# Altium integrated library NXP Semiconductors Automotive MOSFETs.IntLib: 540 symbols (part 10 of 16)
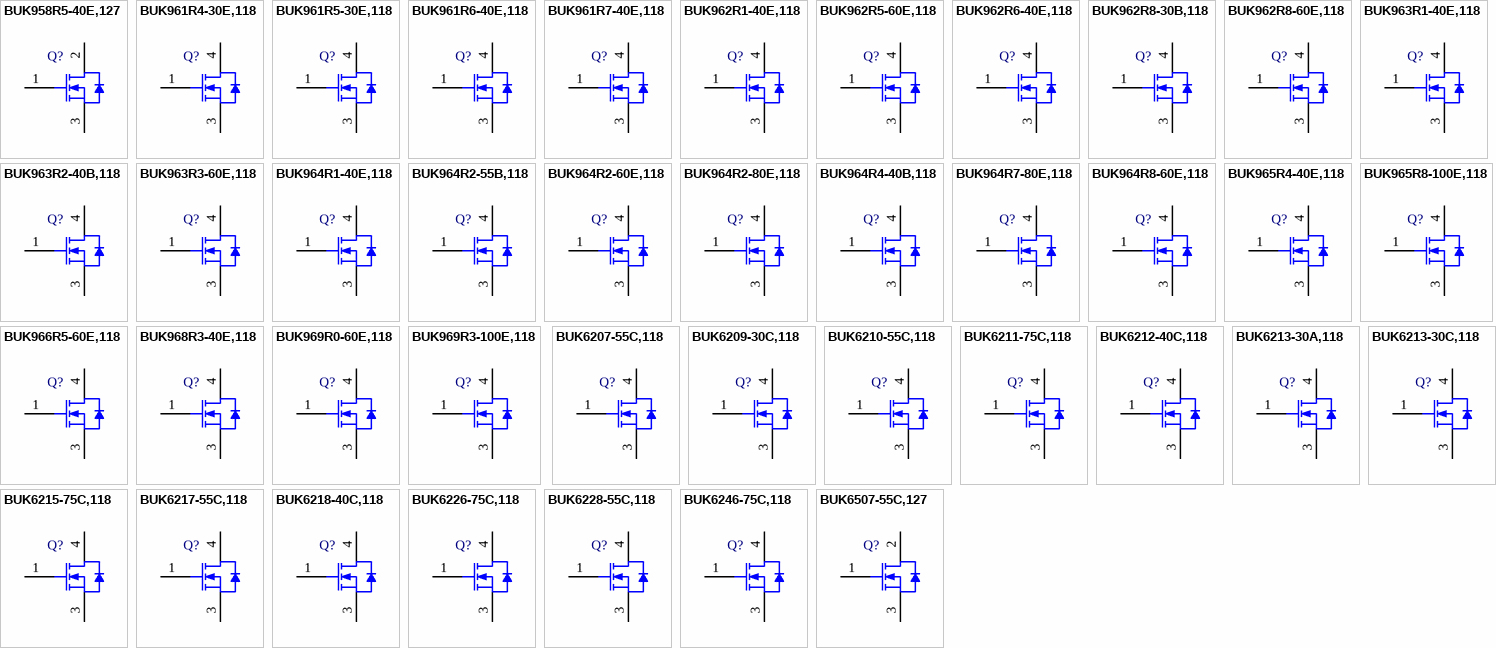
[diagram p23: symbols BUK958R5-40E,127 to BUK6507-55C,127]

## BUK6228-55C,118
designator Q?
N-Channel TrenchMOS Intermediate Level FET, 55 V, 31 A, 3-Pin SOT428, Tape and Reel; Manufacturer: NXP Semiconductors; PartNumber: BUK6228-55C,118; Automotive Qualified: Y; Channel Type: N; ID [max] (A): 31; IDM [max] (A): 122; Packing: Tape & Reel; Qr [typ] (nC): 58.4; VDS [max] (V): 55; VGSth [typ] (V): 2.3; DatasheetVersion: Rev. 1; PackageVersion: 14-06-10, 06/2014; PackageReference: SOT428; PackageDescription: 3-Pin Plastic Single-ended Surface Mounted Package, Body 6.1 x 6.6 mm, Pitch 2.285 mm; Supplier 1: Digi-Key; Supplier Part Number 1: 568-6989-2-ND; Supplier 2: Digi-Key; Supplier Part Number 2: 568-6989-1-ND; Supplier 3: Digi-Key; Supplier Part Number 3: 568-6989-6-ND; Supplier 4: Mouser; Supplier Part Number 4: 771-BUK622855C118; Mounting Technology: Surface Mount; Code_JEITA: SC-63; Code_JEDEC: TO-252; ComponentLink1Description: Manufacturer URL; ComponentLink1URL: http://www.nxp.com/; ComponentLink2Description: Datasheet; ComponentLink2URL: http://www.nxp.com/documents/data_sheet/BUK6228-55C.pdf; ComponentLink3Description: Package Specification; ComponentLink3URL: http://www.nxp.com/documents/outline_drawing/sot428_po.pdf
footprint NXP-SOT428_N (DPAK, 3-Leads, Body 6.75x6.22mm, Pitch 2.29mm, IPC Medium Density)
footprint NXP-SOT428_L (DPAK, 3-Leads, Body 6.75x6.22mm, Pitch 2.29mm, IPC High Density)
footprint NXP-SOT428_M (DPAK, 3-Leads, Body 6.75x6.22mm, Pitch 2.29mm, IPC Low Density)
pins: 1 G "gate", 3 S "source", 4 D "mounting base; connected to drain"

## BUK6246-75C,118
designator Q?
N-Channel TrenchMOS Intermediate Level FET, 75 V, 22 A, 3-Pin SOT428, Tape and Reel; Manufacturer: NXP Semiconductors; PartNumber: BUK6246-75C,118; Automotive Qualified: Y; Channel Type: N; ID [max] (A): 22; IDM [max] (A): 89; Packing: Tape & Reel; Qr [typ] (nC): 64; VDS [max] (V): 75; VGSth [typ] (V): 2.3; DatasheetVersion: Rev. 1; PackageVersion: 14-06-10, 06/2014; PackageReference: SOT428; PackageDescription: 3-Pin Plastic Single-ended Surface Mounted Package, Body 6.1 x 6.6 mm, Pitch 2.285 mm; Supplier 1: Digi-Key; Supplier Part Number 1: BUK6246-75C,118-ND; Supplier 2: Mouser; Supplier Part Number 2: 771-BUK6246-75C118; Mounting Technology: Surface Mount; Code_JEITA: SC-63; Code_JEDEC: TO-252; ComponentLink1Description: Manufacturer URL; ComponentLink1URL: http://www.nxp.com/; ComponentLink2Description: Datasheet; ComponentLink2URL: http://www.nxp.com/documents/data_sheet/BUK6246-75C.pdf; ComponentLink3Description: Package Specification; ComponentLink3URL: http://www.nxp.com/documents/outline_drawing/sot428_po.pdf
footprint NXP-SOT428_N (DPAK, 3-Leads, Body 6.75x6.22mm, Pitch 2.29mm, IPC Medium Density)
footprint NXP-SOT428_L (DPAK, 3-Leads, Body 6.75x6.22mm, Pitch 2.29mm, IPC High Density)
footprint NXP-SOT428_M (DPAK, 3-Leads, Body 6.75x6.22mm, Pitch 2.29mm, IPC Low Density)
pins: 1 G "gate", 3 S "source", 4 D "mounting base; connected to drain"

## BUK6507-55C,127
designator Q?
N-Channel TrenchMOS Logic and Standard Level FET, 55 V, 100 A, 3-Pin SOT78A, Rail; Manufacturer: NXP Semiconductors; PartNumber: BUK6507-55C,127; Automotive Qualified: Y; Channel Type: N; ID [max] (A): 100; IDM [max] (A): 405; Qr [typ] (nC): 86; VDS [max] (V): 55; VGSth [typ] (V): 2.3; DatasheetVersion: Rev. 01; PackageVersion: 05-03-14, 03/2005; PackageReference: SOT78A; PackageDescription: 3-Pin Flange Mount, Vertical Straight Lead, Body 10 x 4.3 mm, Pitch 2.54 mm; Supplier 1: Digi-Key; Supplier Part Number 1: 568-7487-5-ND; Supplier 2: Newark; Supplier Part Number 2: 24T6214; Supplier 3: Mouser; Supplier Part Number 3: 771-BUK650755C127; Packing: Rail; Mounting Technology: Through Hole; Code_JEITA: SC-46; Code_JEDEC: 3-lead TO-220AB; ComponentLink1Description: Manufacturer URL; ComponentLink1URL: http://www.nxp.com/; ComponentLink2Description: Datasheet; ComponentLink2URL: http://www.nxp.com/documents/data_sheet/BUK6507-55C.pdf; ComponentLink3Description: Package Specification; ComponentLink3URL: http://www.nxp.com/documents/outline_drawing/sot078a_po.pdf
footprint NXP-SOT78A (FM, 3-Leads, Body 10.3x4.5mm, Pitch 2.54mm)
pins: 1 G "gate", 2 D "drain", 3 S "source"

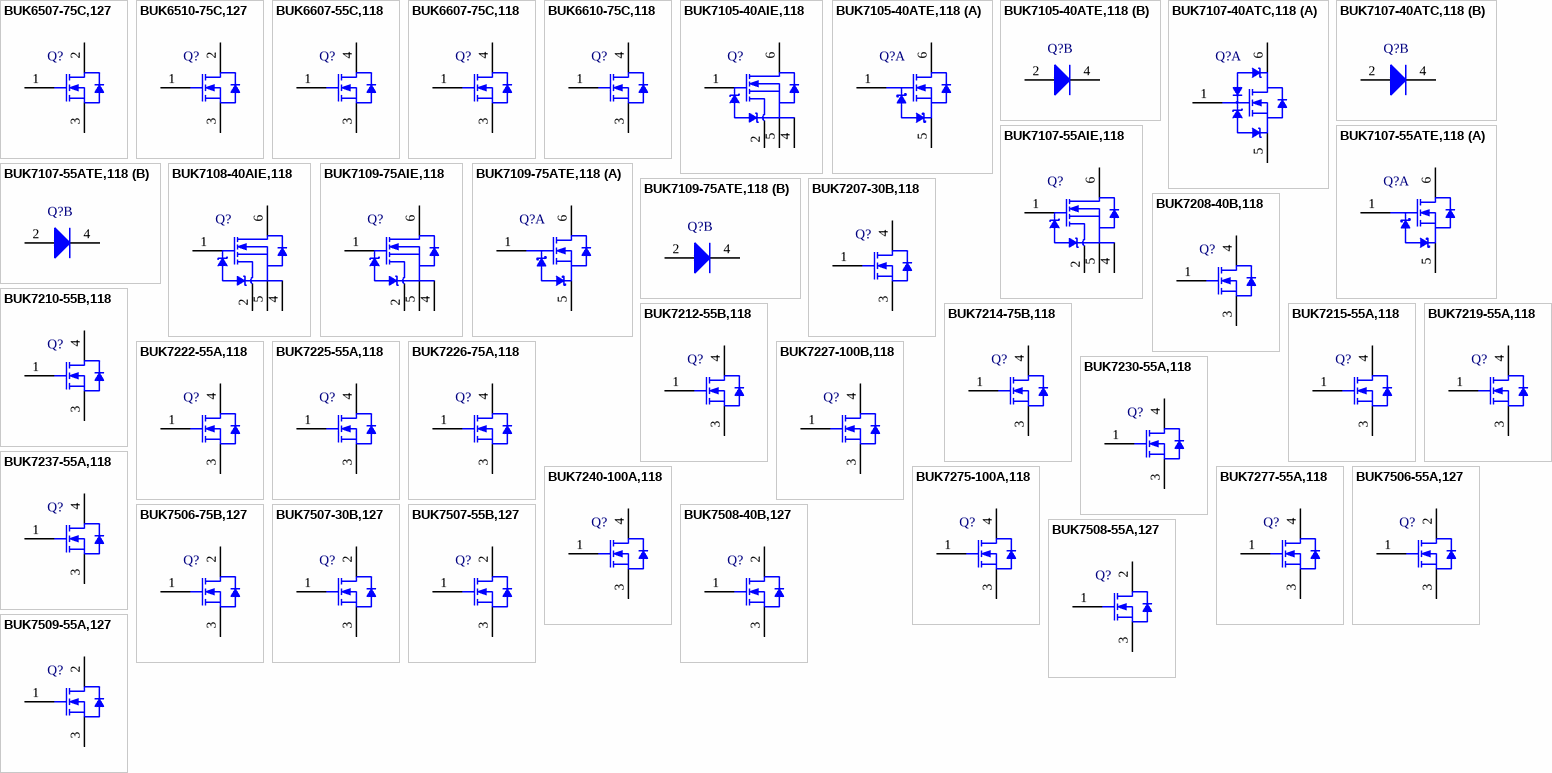
[diagram p9: symbols BUK6507-75C,127 to BUK7509-55A,127]

## BUK6507-75C,127
designator Q?
N-Channel TrenchMOS FET, 75 V, 100 A, 3-Pin SOT78A, Rail; Manufacturer: NXP Semiconductors; PartNumber: BUK6507-75C,127; Automotive Qualified: Y; Channel Type: N; ID [max] (A): 100; IDM [max] (A): 406; Qr [typ] (nC): 129; VDS [max] (V): 75; VGSth [typ] (V): 2.3; DatasheetVersion: Rev. 02; PackageVersion: 05-03-14, 03/2005; PackageReference: SOT78A; PackageDescription: 3-Pin Flange Mount, Vertical Straight Lead, Body 10 x 4.3 mm, Pitch 2.54 mm; Supplier 1: Digi-Key; Supplier Part Number 1: 568-7488-5-ND; Supplier 2: Mouser; Supplier Part Number 2: 771-BUK650775C127; Packing: Rail; Mounting Technology: Through Hole; Code_JEITA: SC-46; Code_JEDEC: 3-lead TO-220AB; ComponentLink1Description: Manufacturer URL; ComponentLink1URL: http://www.nxp.com/; ComponentLink2Description: Datasheet; ComponentLink2URL: http://www.nxp.com/documents/data_sheet/BUK6507-75C.pdf; ComponentLink3Description: Package Specification; ComponentLink3URL: http://www.nxp.com/documents/outline_drawing/sot078a_po.pdf
footprint NXP-SOT78A (FM, 3-Leads, Body 10.3x4.5mm, Pitch 2.54mm)
pins: 1 G "gate", 2 D "drain", 3 S "source"

## BUK6510-75C,127
designator Q?
N-Channel TrenchMOS FET, 75 V, 77 A, 3-Pin SOT78A, Rail; Manufacturer: NXP Semiconductors; PartNumber: BUK6510-75C,127; Automotive Qualified: Y; Channel Type: N; ID [max] (A): 77; IDM [max] (A): 305; Qr [typ] (nC): 105; VDS [max] (V): 75; DatasheetVersion: Rev. 2; PackageVersion: 05-03-14, 03/2005; PackageReference: SOT78A; PackageDescription: 3-Pin Flange Mount, Vertical Straight Lead, Body 10 x 4.3 mm, Pitch 2.54 mm; Supplier 1: Digi-Key; Supplier Part Number 1: 568-7489-5-ND; Supplier 2: Mouser; Supplier Part Number 2: 771-BUK651075C127; Packing: Rail; Mounting Technology: Through Hole; Code_JEITA: SC-46; Code_JEDEC: 3-lead TO-220AB; ComponentLink1Description: Manufacturer URL; ComponentLink1URL: http://www.nxp.com/; ComponentLink2Description: Datasheet; ComponentLink2URL: http://www.nxp.com/documents/data_sheet/BUK6510-75C.pdf; ComponentLink3Description: Package Specification; ComponentLink3URL: http://www.nxp.com/documents/outline_drawing/sot078a_po.pdf
footprint NXP-SOT78A (FM, 3-Leads, Body 10.3x4.5mm, Pitch 2.54mm)
pins: 1 G "gate", 2 D "drain", 3 S "source"

## BUK6607-55C,118
designator Q?
N-Channel TrenchMOS Logic and Standard Level FET, 55 V, 100 A, 3-Pin SOT404, Tape and Reel; Manufacturer: NXP Semiconductors; PartNumber: BUK6607-55C,118; Automotive Qualified: Y; Channel Type: N; ID [max] (A): 100; IDM [max] (A): 420; Packing: Tape & Reel; Qr [typ] (nC): 86; VDS [max] (V): 55; VGSth [typ] (V): 2.3; DatasheetVersion: Rev. 1; PackageVersion: 13-02-25, 02/2013; PackageReference: SOT404; PackageDescription: 3-Pin Plastic Single-ended Surface Mounted Package, Body 10 x 9.6 mm, Pitch 2.54 mm; Supplier 1: Digi-Key; Supplier Part Number 1: 568-6992-2-ND; Supplier 2: Digi-Key; Supplier Part Number 2: 568-6992-1-ND; Supplier 3: Digi-Key; Supplier Part Number 3: 568-6992-6-ND; Supplier 4: Mouser; Supplier Part Number 4: 771-BUK660755C118; Mounting Technology: Surface Mount; ComponentLink1Description: Manufacturer URL; ComponentLink1URL: http://www.nxp.com/; ComponentLink2Description: Datasheet; ComponentLink2URL: http://www.nxp.com/documents/data_sheet/BUK6607-55C.pdf; ComponentLink3Description: Package Specification; ComponentLink3URL: http://www.nxp.com/documents/outline_drawing/sot404_po.pdf
footprint NXP-SOT404_N (DPAK, 3-Leads, Body 10.3x9.8mm, Pitch 2.54mm, IPC Medium Density)
footprint NXP-SOT404_L (DPAK, 3-Leads, Body 10.3x9.8mm, Pitch 2.54mm, IPC High Density)
footprint NXP-SOT404_M (DPAK, 3-Leads, Body 10.3x9.8mm, Pitch 2.54mm, IPC Low Density)
pins: 1 G "gate", 3 S "source", 4 D "mounting base; connected to drain"

## BUK6607-75C,118
designator Q?
N-Channel TrenchMOS FET, 75 V, 100 A, 3-Pin SOT404, Tape and Reel; Manufacturer: NXP Semiconductors; PartNumber: BUK6607-75C,118; Automotive Qualified: Y; Channel Type: N; ID [max] (A): 100; IDM [max] (A): 423; Packing: Tape & Reel; Qr [typ] (nC): 129; VDS [max] (V): 75; VGSth [typ] (V): 2.3; DatasheetVersion: Rev. 2; PackageVersion: 13-02-25, 02/2013; PackageReference: SOT404; PackageDescription: 3-Pin Plastic Single-ended Surface Mounted Package, Body 10 x 9.6 mm, Pitch 2.54 mm; Supplier 1: Digi-Key; Supplier Part Number 1: 568-6993-2-ND; Supplier 2: Digi-Key; Supplier Part Number 2: 568-6993-1-ND; Supplier 3: Digi-Key; Supplier Part Number 3: 568-6993-6-ND; Supplier 4: Mouser; Supplier Part Number 4: 771-BUK660775C118; Mounting Technology: Surface Mount; ComponentLink1Description: Manufacturer URL; ComponentLink1URL: http://www.nxp.com/; ComponentLink2Description: Datasheet; ComponentLink2URL: http://www.nxp.com/documents/data_sheet/BUK6607-75C.pdf; ComponentLink3Description: Package Specification; ComponentLink3URL: http://www.nxp.com/documents/outline_drawing/sot404_po.pdf
footprint NXP-SOT404_N (DPAK, 3-Leads, Body 10.3x9.8mm, Pitch 2.54mm, IPC Medium Density)
footprint NXP-SOT404_L (DPAK, 3-Leads, Body 10.3x9.8mm, Pitch 2.54mm, IPC High Density)
footprint NXP-SOT404_M (DPAK, 3-Leads, Body 10.3x9.8mm, Pitch 2.54mm, IPC Low Density)
pins: 1 G "gate", 3 S "source", 4 D "mounting base; connected to drain"

## BUK6610-75C,118
designator Q?
N-Channel TrenchMOS FET, 75 V, 78 A, 3-Pin SOT404, Tape and Reel; Manufacturer: NXP Semiconductors; PartNumber: BUK6610-75C,118; Automotive Qualified: Y; Channel Type: N; ID [max] (A): 78; IDM [max] (A): 311; Packing: Tape & Reel; Qr [typ] (nC): 105; VDS [max] (V): 75; VGSth [typ] (V): 2.3; DatasheetVersion: Rev. 02; PackageVersion: 13-02-25, 02/2013; PackageReference: SOT404; PackageDescription: 3-Pin Plastic Single-ended Surface Mounted Package, Body 10 x 9.6 mm, Pitch 2.54 mm; Supplier 1: Digi-Key; Supplier Part Number 1: 568-6994-2-ND; Supplier 2: Digi-Key; Supplier Part Number 2: 568-6994-1-ND; Supplier 3: Digi-Key; Supplier Part Number 3: 568-6994-6-ND; Supplier 4: Mouser; Supplier Part Number 4: 771-BUK661075C118; Mounting Technology: Surface Mount; ComponentLink1Description: Manufacturer URL; ComponentLink1URL: http://www.nxp.com/; ComponentLink2Description: Datasheet; ComponentLink2URL: http://www.nxp.com/documents/data_sheet/BUK6610-75C.pdf; ComponentLink3Description: Package Specification; ComponentLink3URL: http://www.nxp.com/documents/outline_drawing/sot404_po.pdf
footprint NXP-SOT404_N (DPAK, 3-Leads, Body 10.3x9.8mm, Pitch 2.54mm, IPC Medium Density)
footprint NXP-SOT404_L (DPAK, 3-Leads, Body 10.3x9.8mm, Pitch 2.54mm, IPC High Density)
footprint NXP-SOT404_M (DPAK, 3-Leads, Body 10.3x9.8mm, Pitch 2.54mm, IPC Low Density)
pins: 1 G "gate", 3 S "source", 4 D "mounting base; connected to drain"

## BUK7105-40AIE,118
designator Q?
N-Channel TrenchPLUS Standard Level FET, 40 V, 5-Pin SOT426, Tape and Reel; Manufacturer: NXP Semiconductors; PartNumber: BUK7105-40AIE,118; Automotive Qualified: Y; Channel Type: N; IDM [max] (A): 620; Packing: Tape & Reel; Qr [typ] (nC): 224; VDS [max] (V): 40; VGSth [typ] (V): 3; DatasheetVersion: Rev. 05; PackageVersion: 06-03-16, 03/2006; PackageReference: SOT426; PackageDescription: 5-Pin Plastic Single-ended Surface Mounted Package, Body 10 x 9.6 mm, Pitch 1.7 mm; Supplier 1: Digi-Key; Supplier Part Number 1: 568-9627-2-ND; Supplier 2: Digi-Key; Supplier Part Number 2: 568-9627-1-ND; Supplier 3: Digi-Key; Supplier Part Number 3: 568-9627-6-ND; Supplier 4: Mouser; Supplier Part Number 4: 771-BUK7105-40AIE118; Mounting Technology: Surface Mount; ComponentLink1Description: Manufacturer URL; ComponentLink1URL: http://www.nxp.com/; ComponentLink2Description: Datasheet; ComponentLink2URL: http://www.nxp.com/documents/data_sheet/BUK7105-40AIE.pdf; ComponentLink3Description: Package Specification; ComponentLink3URL: http://www.nxp.com/documents/outline_drawing/sot426_po.pdf
footprint NXP-SOT426_N (DPAK, 5-Leads, Body 10.3x9.8mm, Pitch 1.7mm, IPC Medium Density)
footprint NXP-SOT426_L (DPAK, 5-Leads, Body 10.3x9.8mm, Pitch 1.7mm, IPC High Density)
footprint NXP-SOT426_M (DPAK, 5-Leads, Body 10.3x9.8mm, Pitch 1.7mm, IPC Low Density)
pins: 1 G "gate", 2 ISENSE "Sense current", 4 KS "Kelvin source", 5 S "source", 6 D "mounting base; connected to drain"

## BUK7105-40ATE,118
designator Q?
N-Channel TrenchPLUS Standard Level FET, 40 V, 5-Pin SOT426, Tape and Reel; Manufacturer: NXP Semiconductors; PartNumber: BUK7105-40ATE,118; Automotive Qualified: Y; Channel Type: N; IDM [max] (A): 620; Packing: Tape & Reel; Qr [typ] (nC): 224; VDS [max] (V): 40; VGSth [typ] (V): 3; DatasheetVersion: Rev. 02; PackageVersion: 06-03-16, 03/2006; PackageReference: SOT426; PackageDescription: 5-Pin Plastic Single-ended Surface Mounted Package, Body 10 x 9.6 mm, Pitch 1.7 mm; Supplier 1: Digi-Key; Supplier Part Number 1: BUK7105-40ATE,118-ND; Supplier 2: Mouser; Supplier Part Number 2: 771-BUK7105-40ATE118; Mounting Technology: Surface Mount; ComponentLink1Description: Manufacturer URL; ComponentLink1URL: http://www.nxp.com/; ComponentLink2Description: Datasheet; ComponentLink2URL: http://www.nxp.com/documents/data_sheet/BUK7105-40ATE.pdf; ComponentLink3Description: Package Specification; ComponentLink3URL: http://www.nxp.com/documents/outline_drawing/sot426_po.pdf
footprint NXP-SOT426_N (DPAK, 5-Leads, Body 10.3x9.8mm, Pitch 1.7mm, IPC Medium Density)
footprint NXP-SOT426_L (DPAK, 5-Leads, Body 10.3x9.8mm, Pitch 1.7mm, IPC High Density)
footprint NXP-SOT426_M (DPAK, 5-Leads, Body 10.3x9.8mm, Pitch 1.7mm, IPC Low Density)
part A pins: 1 G "gate", 5 S "source", 6 D "mounting base; connected to  drain"
part B pins: 2 A "anode", 4 K "cathode"

## BUK7107-40ATC,118
designator Q?
N-Channel TrenchPLUS Standard Level FET, 40 V, 5-Pin SOT426, Tape and Reel; Manufacturer: NXP Semiconductors; PartNumber: BUK7107-40ATC,118; Automotive Qualified: Y; Channel Type: N; IDM [max] (A): 560; Packing: Tape & Reel; Qr [typ] (nC): 200; VDS [max] (V): 40; VGSth [typ] (V): 3; DatasheetVersion: Rev. 02; PackageVersion: 06-03-16, 03/2006; PackageReference: SOT426; PackageDescription: 5-Pin Plastic Single-ended Surface Mounted Package, Body 10 x 9.6 mm, Pitch 1.7 mm; Supplier 1: Digi-Key; Supplier Part Number 1: BUK7107-40ATC,118-ND; Supplier 2: Mouser; Supplier Part Number 2: 771-BUK7107-40ATC118; Mounting Technology: Surface Mount; ComponentLink1Description: Manufacturer URL; ComponentLink1URL: http://www.nxp.com/; ComponentLink2Description: Datasheet; ComponentLink2URL: http://www.nxp.com/documents/data_sheet/BUK7107-40ATC.pdf; ComponentLink3Description: Package Specification; ComponentLink3URL: http://www.nxp.com/documents/outline_drawing/sot426_po.pdf
footprint NXP-SOT426_N (DPAK, 5-Leads, Body 10.3x9.8mm, Pitch 1.7mm, IPC Medium Density)
footprint NXP-SOT426_L (DPAK, 5-Leads, Body 10.3x9.8mm, Pitch 1.7mm, IPC High Density)
footprint NXP-SOT426_M (DPAK, 5-Leads, Body 10.3x9.8mm, Pitch 1.7mm, IPC Low Density)
part A pins: 1 G "gate", 5 S "source", 6 D "mounting base; connected to drain"
part B pins: 2 A "anode", 4 K "cathode"

## BUK7107-55AIE,118
designator Q?
N-Channel TrenchPLUS Standard Level FET, 55 V, 5-Pin SOT426, Tape and Reel; Manufacturer: NXP Semiconductors; PartNumber: BUK7107-55AIE,118; Automotive Qualified: Y; Channel Type: N; IDM [max] (A): 560; Packing: Tape & Reel; Qr [typ] (nC): 200; VDS [max] (V): 55; VGSth [typ] (V): 3; DatasheetVersion: Rev. 02; PackageVersion: 06-03-16, 03/2006; PackageReference: SOT426; PackageDescription: 5-Pin Plastic Single-ended Surface Mounted Package, Body 10 x 9.6 mm, Pitch 1.7 mm; Supplier 1: Digi-Key; Supplier Part Number 1: BUK7107-55AIE,118-ND; Supplier 2: Mouser; Supplier Part Number 2: 771-BUK7107-55AIE118; Mounting Technology: Surface Mount; ComponentLink1Description: Manufacturer URL; ComponentLink1URL: http://www.nxp.com/; ComponentLink2Description: Datasheet; ComponentLink2URL: http://www.nxp.com/documents/data_sheet/BUK7107-55AIE.pdf; ComponentLink3Description: Package Specification; ComponentLink3URL: http://www.nxp.com/documents/outline_drawing/sot426_po.pdf
footprint NXP-SOT426_N (DPAK, 5-Leads, Body 10.3x9.8mm, Pitch 1.7mm, IPC Medium Density)
footprint NXP-SOT426_L (DPAK, 5-Leads, Body 10.3x9.8mm, Pitch 1.7mm, IPC High Density)
footprint NXP-SOT426_M (DPAK, 5-Leads, Body 10.3x9.8mm, Pitch 1.7mm, IPC Low Density)
pins: 1 G "gate", 2 ISENSE "Sense current", 4 KS "Kelvin source", 5 S "source", 6 D "mounting base; connected to drain"

## BUK7107-55ATE,118
designator Q?
N-Channel TrenchPLUS Standard Level FET, 55 V, 5-Pin SOT426, Tape and Reel; Manufacturer: NXP Semiconductors; PartNumber: BUK7107-55ATE,118; Automotive Qualified: Y; Channel Type: N; IDM [max] (A): 560; Packing: Tape & Reel; Qr [typ] (nC): 200; VDS [max] (V): 55; VGSth [typ] (V): 3; DatasheetVersion: Rev. 02; PackageVersion: 06-03-16, 03/2006; PackageReference: SOT426; PackageDescription: 5-Pin Plastic Single-ended Surface Mounted Package, Body 10 x 9.6 mm, Pitch 1.7 mm; Supplier 1: Digi-Key; Supplier Part Number 1: 568-9628-2-ND; Supplier 2: Digi-Key; Supplier Part Number 2: 568-9628-1-ND; Supplier 3: Digi-Key; Supplier Part Number 3: 568-9628-6-ND; Supplier 4: Mouser; Supplier Part Number 4: 771-BUK7107-55ATE118; Mounting Technology: Surface Mount; ComponentLink1Description: Manufacturer URL; ComponentLink1URL: http://www.nxp.com/; ComponentLink2Description: Datasheet; ComponentLink2URL: http://www.nxp.com/documents/data_sheet/BUK7107-55ATE.pdf; ComponentLink3Description: Package Specification; ComponentLink3URL: http://www.nxp.com/documents/outline_drawing/sot426_po.pdf
footprint NXP-SOT426_N (DPAK, 5-Leads, Body 10.3x9.8mm, Pitch 1.7mm, IPC Medium Density)
footprint NXP-SOT426_L (DPAK, 5-Leads, Body 10.3x9.8mm, Pitch 1.7mm, IPC High Density)
footprint NXP-SOT426_M (DPAK, 5-Leads, Body 10.3x9.8mm, Pitch 1.7mm, IPC Low Density)
part A pins: 1 G "gate", 5 S "source", 6 D "mounting base; connected to  drain"
part B pins: 2 A "anode", 4 K "cathode"

## BUK7108-40AIE,118
designator Q?
N-Channel TrenchPLUS Standard Level FET, 40 V, 5-Pin SOT426, Tape and Reel; Manufacturer: NXP Semiconductors; PartNumber: BUK7108-40AIE,118; Automotive Qualified: Y; Channel Type: N; IDM [max] (A): 468; Packing: Tape & Reel; Qr [typ] (nC): 30; VDS [max] (V): 40; VGSth [typ] (V): 3; DatasheetVersion: Rev. 03; PackageVersion: 06-03-16, 03/2006; PackageReference: SOT426; PackageDescription: 5-Pin Plastic Single-ended Surface Mounted Package, Body 10 x 9.6 mm, Pitch 1.7 mm; Supplier 1: Digi-Key; Supplier Part Number 1: 568-9629-2-ND; Supplier 2: Digi-Key; Supplier Part Number 2: 568-9629-1-ND; Supplier 3: Digi-Key; Supplier Part Number 3: 568-9629-6-ND; Supplier 4: Mouser; Supplier Part Number 4: 771-BUK7108-40AIE118; Mounting Technology: Surface Mount; ComponentLink1Description: Manufacturer URL; ComponentLink1URL: http://www.nxp.com/; ComponentLink2Description: Datasheet; ComponentLink2URL: http://www.nxp.com/documents/data_sheet/BUK7108-40AIE.pdf; ComponentLink3Description: Package Specification; ComponentLink3URL: http://www.nxp.com/documents/outline_drawing/sot426_po.pdf
footprint NXP-SOT426_N (DPAK, 5-Leads, Body 10.3x9.8mm, Pitch 1.7mm, IPC Medium Density)
footprint NXP-SOT426_L (DPAK, 5-Leads, Body 10.3x9.8mm, Pitch 1.7mm, IPC High Density)
footprint NXP-SOT426_M (DPAK, 5-Leads, Body 10.3x9.8mm, Pitch 1.7mm, IPC Low Density)
pins: 1 G "gate", 2 ISENSE "Sense current", 4 KS "Kelvin source", 5 S "source", 6 D "mounting base; connected to drain"

## BUK7109-75AIE,118
designator Q?
N-Channel TrenchPLUS Standard Level FET, 75 V, 5-Pin SOT426, Tape and Reel; Manufacturer: NXP Semiconductors; PartNumber: BUK7109-75AIE,118; Automotive Qualified: Y; Channel Type: N; IDM [max] (A): 480; Packing: Tape & Reel; Qr [typ] (nC): 270; VDS [max] (V): 75; VGSth [typ] (V): 3; DatasheetVersion: Rev. 02; PackageVersion: 06-03-16, 03/2006; PackageReference: SOT426; PackageDescription: 5-Pin Plastic Single-ended Surface Mounted Package, Body 10 x 9.6 mm, Pitch 1.7 mm; Supplier 1: Digi-Key; Supplier Part Number 1: 568-9630-2-ND; Supplier 2: Digi-Key; Supplier Part Number 2: 568-9630-1-ND; Supplier 3: Digi-Key; Supplier Part Number 3: 568-9630-6-ND; Supplier 4: Mouser; Supplier Part Number 4: 771-BUK7109-75AIE118; Mounting Technology: Surface Mount; ComponentLink1Description: Manufacturer URL; ComponentLink1URL: http://www.nxp.com/; ComponentLink2Description: Datasheet; ComponentLink2URL: http://www.nxp.com/documents/data_sheet/BUK7109-75AIE.pdf; ComponentLink3Description: Package Specification; ComponentLink3URL: http://www.nxp.com/documents/outline_drawing/sot426_po.pdf
footprint NXP-SOT426_N (DPAK, 5-Leads, Body 10.3x9.8mm, Pitch 1.7mm, IPC Medium Density)
footprint NXP-SOT426_L (DPAK, 5-Leads, Body 10.3x9.8mm, Pitch 1.7mm, IPC High Density)
footprint NXP-SOT426_M (DPAK, 5-Leads, Body 10.3x9.8mm, Pitch 1.7mm, IPC Low Density)
pins: 1 G "gate", 2 ISENSE "Sense current", 4 KS "Kelvin source", 5 S "source", 6 D "mounting base; connected to drain"

## BUK7109-75ATE,118
designator Q?
N-Channel TrenchPLUS Standard Level FET, 75 V, 5-Pin SOT426, Tape and Reel; Manufacturer: NXP Semiconductors; PartNumber: BUK7109-75ATE,118; Automotive Qualified: Y; Channel Type: N; IDM [max] (A): 480; Packing: Tape & Reel; Qr [typ] (nC): 270; VDS [max] (V): 75; VGSth [typ] (V): 3; DatasheetVersion: Rev. 02; PackageVersion: 06-03-16, 03/2006; PackageReference: SOT426; PackageDescription: 5-Pin Plastic Single-ended Surface Mounted Package, Body 10 x 9.6 mm, Pitch 1.7 mm; Supplier 1: Digi-Key; Supplier Part Number 1: 568-9631-2-ND; Supplier 2: Digi-Key; Supplier Part Number 2: 568-9631-1-ND; Supplier 3: Digi-Key; Supplier Part Number 3: 568-9631-6-ND; Supplier 4: Mouser; Supplier Part Number 4: 771-BUK7109-75ATE118; Mounting Technology: Surface Mount; ComponentLink1Description: Manufacturer URL; ComponentLink1URL: http://www.nxp.com/; ComponentLink2Description: Datasheet; ComponentLink2URL: http://www.nxp.com/documents/data_sheet/BUK7109-75ATE.pdf; ComponentLink3Description: Package Specification; ComponentLink3URL: http://www.nxp.com/documents/outline_drawing/sot426_po.pdf
footprint NXP-SOT426_N (DPAK, 5-Leads, Body 10.3x9.8mm, Pitch 1.7mm, IPC Medium Density)
footprint NXP-SOT426_L (DPAK, 5-Leads, Body 10.3x9.8mm, Pitch 1.7mm, IPC High Density)
footprint NXP-SOT426_M (DPAK, 5-Leads, Body 10.3x9.8mm, Pitch 1.7mm, IPC Low Density)
part A pins: 1 G "gate", 5 S "source", 6 D "mounting base; connected to  drain"
part B pins: 2 A "anode", 4 K "cathode"

## BUK7207-30B,118
designator Q?
N-Channel TrenchMOS Standard Level FET, 30 V, 3-Pin SOT428, Tape and Reel; Manufacturer: NXP Semiconductors; PartNumber: BUK7207-30B,118; Automotive Qualified: Y; Channel Type: N; IDM [max] (A): 449; Packing: Tape & Reel; Qr [typ] (nC): 20; VDS [max] (V): 30; VGSth [typ] (V): 3; DatasheetVersion: Rev. 3; PackageVersion: 14-06-10, 06/2014; PackageReference: SOT428; PackageDescription: 3-Pin Plastic Single-ended Surface Mounted Package, Body 6.1 x 6.6 mm, Pitch 2.285 mm; Supplier 1: Digi-Key; Supplier Part Number 1: 568-6568-2-ND; Supplier 2: Digi-Key; Supplier Part Number 2: 568-6568-1-ND; Supplier 3: Digi-Key; Supplier Part Number 3: 568-6568-6-ND; Supplier 4: Mouser; Supplier Part Number 4: 771-BUK7207-30B118; Mounting Technology: Surface Mount; Code_JEITA: SC-63; Code_JEDEC: TO-252; ComponentLink1Description: Manufacturer URL; ComponentLink1URL: http://www.nxp.com/; ComponentLink2Description: Datasheet; ComponentLink2URL: http://www.nxp.com/documents/data_sheet/BUK7207-30B.pdf; ComponentLink3Description: Package Specification; ComponentLink3URL: http://www.nxp.com/documents/outline_drawing/sot428_po.pdf
footprint NXP-SOT428_N (DPAK, 3-Leads, Body 6.75x6.22mm, Pitch 2.29mm, IPC Medium Density)
footprint NXP-SOT428_L (DPAK, 3-Leads, Body 6.75x6.22mm, Pitch 2.29mm, IPC High Density)
footprint NXP-SOT428_M (DPAK, 3-Leads, Body 6.75x6.22mm, Pitch 2.29mm, IPC Low Density)
pins: 1 G "gate", 3 S "source", 4 D "mounting base; connected to drain"

## BUK7208-40B,118
designator Q?
N-Channel TrenchMOS Standard Level FET, 40 V, 3-Pin SOT428, Tape and Reel; Manufacturer: NXP Semiconductors; PartNumber: BUK7208-40B,118; Automotive Qualified: Y; Channel Type: N; IDM [max] (A): 420; Packing: Tape & Reel; Qr [typ] (nC): 36; VDS [max] (V): 40; VGSth [typ] (V): 3; DatasheetVersion: Rev. 03; PackageVersion: 14-06-10, 06/2014; PackageReference: SOT428; PackageDescription: 3-Pin Plastic Single-ended Surface Mounted Package, Body 6.1 x 6.6 mm, Pitch 2.285 mm; Supplier 1: Digi-Key; Supplier Part Number 1: 568-6569-2-ND; Supplier 2: Digi-Key; Supplier Part Number 2: 568-6569-1-ND; Supplier 3: Digi-Key; Supplier Part Number 3: 568-6569-6-ND; Supplier 4: Mouser; Supplier Part Number 4: 771-BUK7208-40B118; Mounting Technology: Surface Mount; Code_JEITA: SC-63; Code_JEDEC: TO-252; ComponentLink1Description: Manufacturer URL; ComponentLink1URL: http://www.nxp.com/; ComponentLink2Description: Datasheet; ComponentLink2URL: http://www.nxp.com/documents/data_sheet/BUK7208-40B.pdf; ComponentLink3Description: Package Specification; ComponentLink3URL: http://www.nxp.com/documents/outline_drawing/sot428_po.pdf
footprint NXP-SOT428_N (DPAK, 3-Leads, Body 6.75x6.22mm, Pitch 2.29mm, IPC Medium Density)
footprint NXP-SOT428_L (DPAK, 3-Leads, Body 6.75x6.22mm, Pitch 2.29mm, IPC High Density)
footprint NXP-SOT428_M (DPAK, 3-Leads, Body 6.75x6.22mm, Pitch 2.29mm, IPC Low Density)
pins: 1 G "gate", 3 S "source", 4 D "mounting base; connected to drain"

## BUK7210-55B,118
designator Q?
N-Channel TrenchMOS Standard Level FET, 55 V, 3-Pin SOT428, Tape and Reel; Manufacturer: NXP Semiconductors; PartNumber: BUK7210-55B,118; Automotive Qualified: Y; Channel Type: N; IDM [max] (A): 335; Packing: Tape & Reel; Qr [typ] (nC): 65; VDS [max] (V): 55; VGSth [typ] (V): 3; DatasheetVersion: Rev. 01; PackageVersion: 14-06-10, 06/2014; PackageReference: SOT428; PackageDescription: 3-Pin Plastic Single-ended Surface Mounted Package, Body 6.1 x 6.6 mm, Pitch 2.285 mm; Supplier 1: Digi-Key; Supplier Part Number 1: 568-5843-2-ND; Supplier 2: Digi-Key; Supplier Part Number 2: 568-5843-1-ND; Supplier 3: Digi-Key; Supplier Part Number 3: 568-5843-6-ND; Supplier 4: Mouser; Supplier Part Number 4: 771-BUK7210-55B,118; Mounting Technology: Surface Mount; Code_JEITA: SC-63; Code_JEDEC: TO-252; ComponentLink1Description: Manufacturer URL; ComponentLink1URL: http://www.nxp.com/; ComponentLink2Description: Datasheet; ComponentLink2URL: http://www.nxp.com/documents/data_sheet/BUK7210-55B.pdf; ComponentLink3Description: Package Specification; ComponentLink3URL: http://www.nxp.com/documents/outline_drawing/sot428_po.pdf
footprint NXP-SOT428_N (DPAK, 3-Leads, Body 6.75x6.22mm, Pitch 2.29mm, IPC Medium Density)
footprint NXP-SOT428_L (DPAK, 3-Leads, Body 6.75x6.22mm, Pitch 2.29mm, IPC High Density)
footprint NXP-SOT428_M (DPAK, 3-Leads, Body 6.75x6.22mm, Pitch 2.29mm, IPC Low Density)
pins: 1 G "gate", 3 S "source", 4 D "mounting base; connected to drain"

## BUK7212-55B,118
designator Q?
N-Channel TrenchMOS Standard Level FET, 55 V, 3-Pin SOT428, Tape and Reel; Manufacturer: NXP Semiconductors; PartNumber: BUK7212-55B,118; Automotive Qualified: Y; Channel Type: N; IDM [max] (A): 335; Packing: Tape & Reel; Qr [typ] (nC): 65; VDS [max] (V): 55; VGSth [typ] (V): 3; DatasheetVersion: Rev. 2; PackageVersion: 14-06-10, 06/2014; PackageReference: SOT428; PackageDescription: 3-Pin Plastic Single-ended Surface Mounted Package, Body 6.1 x 6.6 mm, Pitch 2.285 mm; Supplier 1: Digi-Key; Supplier Part Number 1: 568-6570-2-ND; Supplier 2: Digi-Key; Supplier Part Number 2: 568-6570-1-ND; Supplier 3: Digi-Key; Supplier Part Number 3: 568-6570-6-ND; Supplier 4: Mouser; Supplier Part Number 4: 771-BUK7212-55B118; Mounting Technology: Surface Mount; Code_JEITA: SC-63; Code_JEDEC: TO-252; ComponentLink1Description: Manufacturer URL; ComponentLink1URL: http://www.nxp.com/; ComponentLink2Description: Datasheet; ComponentLink2URL: http://www.nxp.com/documents/data_sheet/BUK7212-55B.pdf; ComponentLink3Description: Package Specification; ComponentLink3URL: http://www.nxp.com/documents/outline_drawing/sot428_po.pdf
footprint NXP-SOT428_N (DPAK, 3-Leads, Body 6.75x6.22mm, Pitch 2.29mm, IPC Medium Density)
footprint NXP-SOT428_L (DPAK, 3-Leads, Body 6.75x6.22mm, Pitch 2.29mm, IPC High Density)
footprint NXP-SOT428_M (DPAK, 3-Leads, Body 6.75x6.22mm, Pitch 2.29mm, IPC Low Density)
pins: 1 G "gate", 3 S "source", 4 D "mounting base; connected to drain"

## BUK7214-75B,118
designator Q?
N-Channel TrenchMOS Standard Level FET, 75 V, 69 A, 3-Pin SOT428, Tape and Reel; Manufacturer: NXP Semiconductors; PartNumber: BUK7214-75B,118; Automotive Qualified: Y; Channel Type: N; ID [max] (A): 69; IDM [max] (A): 276; Packing: Tape & Reel; Qr [typ] (nC): 94; VDS [max] (V): 75; VGSth [typ] (V): 3; PackageVersion: 14-06-10, 06/2014; PackageReference: SOT428; PackageDescription: 3-Pin Plastic Single-ended Surface Mounted Package, Body 6.1 x 6.6 mm, Pitch 2.285 mm; Supplier 1: Digi-Key; Supplier Part Number 1: 568-5844-2-ND; Supplier 2: Digi-Key; Supplier Part Number 2: 568-5844-1-ND; Supplier 3: Digi-Key; Supplier Part Number 3: 568-5844-6-ND; Supplier 4: Mouser; Supplier Part Number 4: 771-BUK7214-75B118; Mounting Technology: Surface Mount; Code_JEITA: SC-63; Code_JEDEC: TO-252; ComponentLink1Description: Manufacturer URL; ComponentLink1URL: http://www.nxp.com/; ComponentLink2Description: Datasheet; ComponentLink2URL: http://www.nxp.com/documents/data_sheet/BUK7214-75B.pdf; ComponentLink3Description: Package Specification; ComponentLink3URL: http://www.nxp.com/documents/outline_drawing/sot428_po.pdf
footprint NXP-SOT428_N (DPAK, 3-Leads, Body 6.75x6.22mm, Pitch 2.29mm, IPC Medium Density)
footprint NXP-SOT428_L (DPAK, 3-Leads, Body 6.75x6.22mm, Pitch 2.29mm, IPC High Density)
footprint NXP-SOT428_M (DPAK, 3-Leads, Body 6.75x6.22mm, Pitch 2.29mm, IPC Low Density)
pins: 1 G "gate", 3 S "source", 4 D "mounting base; connected to drain"

## BUK7215-55A,118
designator Q?
N-Channel TrenchMOS Standard Level FET, 55 V, 3-Pin SOT428, Tape and Reel; Manufacturer: NXP Semiconductors; PartNumber: BUK7215-55A,118; Automotive Qualified: Y; Channel Type: N; IDM [max] (A): 248; Packing: Tape & Reel; Qr [typ] (nC): 106; VDS [max] (V): 55; VGSth [typ] (V): 3; DatasheetVersion: Rev. 02; PackageVersion: 14-06-10, 06/2014; PackageReference: SOT428; PackageDescription: 3-Pin Plastic Single-ended Surface Mounted Package, Body 6.1 x 6.6 mm, Pitch 2.285 mm; Supplier 1: Digi-Key; Supplier Part Number 1: 568-9633-2-ND; Supplier 2: Digi-Key; Supplier Part Number 2: 568-9633-1-ND; Supplier 3: Digi-Key; Supplier Part Number 3: 568-9633-6-ND; Supplier 4: Mouser; Supplier Part Number 4: 771-BUK7215-55A118; Mounting Technology: Surface Mount; Code_JEITA: SC-63; Code_JEDEC: TO-252; ComponentLink1Description: Manufacturer URL; ComponentLink1URL: http://www.nxp.com/; ComponentLink2Description: Datasheet; ComponentLink2URL: http://www.nxp.com/documents/data_sheet/BUK7215-55A.pdf; ComponentLink3Description: Package Specification; ComponentLink3URL: http://www.nxp.com/documents/outline_drawing/sot428_po.pdf
footprint NXP-SOT428_N (DPAK, 3-Leads, Body 6.75x6.22mm, Pitch 2.29mm, IPC Medium Density)
footprint NXP-SOT428_L (DPAK, 3-Leads, Body 6.75x6.22mm, Pitch 2.29mm, IPC High Density)
footprint NXP-SOT428_M (DPAK, 3-Leads, Body 6.75x6.22mm, Pitch 2.29mm, IPC Low Density)
pins: 1 G "gate", 3 S "source", 4 D "mounting base; connected to drain"

## BUK7219-55A,118
designator Q?
N-Channel TrenchMOS Standard Level FET, 55 V, 55 A, 3-Pin SOT428, Tape and Reel; Manufacturer: NXP Semiconductors; PartNumber: BUK7219-55A,118; Automotive Qualified: Y; Channel Type: N; ID [max] (A): 55; IDM [max] (A): 250; Packing: Tape & Reel; Qr [typ] (nC): 106; VGSth [typ] (V): 3; DatasheetVersion: Rev. 02; PackageVersion: 14-06-10, 06/2014; PackageReference: SOT428; PackageDescription: 3-Pin Plastic Single-ended Surface Mounted Package, Body 6.1 x 6.6 mm, Pitch 2.285 mm; Supplier 1: Digi-Key; Supplier Part Number 1: 568-9635-2-ND; Supplier 2: Digi-Key; Supplier Part Number 2: 568-9635-1-ND; Supplier 3: Digi-Key; Supplier Part Number 3: 568-9635-6-ND; Supplier 4: Mouser; Supplier Part Number 4: 771-BUK7219-55A118; VDS [max] (V): 55; Mounting Technology: Surface Mount; Code_JEITA: SC-63; Code_JEDEC: TO-252; ComponentLink1Description: Manufacturer URL; ComponentLink1URL: http://www.nxp.com/; ComponentLink2Description: Datasheet; ComponentLink2URL: http://www.nxp.com/documents/data_sheet/BUK7219-55A.pdf; ComponentLink3Description: Package Specification; ComponentLink3URL: http://www.nxp.com/documents/outline_drawing/sot428_po.pdf
footprint NXP-SOT428_N (DPAK, 3-Leads, Body 6.75x6.22mm, Pitch 2.29mm, IPC Medium Density)
footprint NXP-SOT428_L (DPAK, 3-Leads, Body 6.75x6.22mm, Pitch 2.29mm, IPC High Density)
footprint NXP-SOT428_M (DPAK, 3-Leads, Body 6.75x6.22mm, Pitch 2.29mm, IPC Low Density)
pins: 1 G "gate", 3 S "source", 4 D "mounting base; connected to drain"

## BUK7222-55A,118
designator Q?
N-Channel TrenchMOS Standard Level FET, 55 V, 48 A, 3-Pin SOT428, Tape and Reel; Manufacturer: NXP Semiconductors; PartNumber: BUK7222-55A,118; Automotive Qualified: Y; Channel Type: N; ID [max] (A): 48; IDM [max] (A): 193; Packing: Tape & Reel; Qr [typ] (nC): 110; VDS [max] (V): 55; VGSth [typ] (V): 3; DatasheetVersion: Rev. 2; PackageVersion: 14-06-10, 06/2014; PackageReference: SOT428; PackageDescription: 3-Pin Plastic Single-ended Surface Mounted Package, Body 6.1 x 6.6 mm, Pitch 2.285 mm; Supplier 1: Digi-Key; Supplier Part Number 1: 568-9636-2-ND; Supplier 2: Digi-Key; Supplier Part Number 2: 568-9636-1-ND; Supplier 3: Digi-Key; Supplier Part Number 3: 568-9636-6-ND; Supplier 4: Mouser; Supplier Part Number 4: 771-BUK7222-55A118; Mounting Technology: Surface Mount; Code_JEITA: SC-63; Code_JEDEC: TO-252; ComponentLink1Description: Manufacturer URL; ComponentLink1URL: http://www.nxp.com/; ComponentLink2Description: Datasheet; ComponentLink2URL: http://www.nxp.com/documents/data_sheet/BUK7222-55A.pdf; ComponentLink3Description: Package Specification; ComponentLink3URL: http://www.nxp.com/documents/outline_drawing/sot428_po.pdf
footprint NXP-SOT428_N (DPAK, 3-Leads, Body 6.75x6.22mm, Pitch 2.29mm, IPC Medium Density)
footprint NXP-SOT428_L (DPAK, 3-Leads, Body 6.75x6.22mm, Pitch 2.29mm, IPC High Density)
footprint NXP-SOT428_M (DPAK, 3-Leads, Body 6.75x6.22mm, Pitch 2.29mm, IPC Low Density)
pins: 1 G "gate", 3 S "source", 4 D "mounting base; connected to drain"

## BUK7225-55A,118
designator Q?
N-Channel TrenchMOS Standard Level FET, 55 V, 43 A, 3-Pin SOT428, Tape and Reel; Manufacturer: NXP Semiconductors; PartNumber: BUK7225-55A,118; Automotive Qualified: Y; Channel Type: N; ID [max] (A): 43; IDM [max] (A): 173; Packing: Tape & Reel; Qr [typ] (nC): 102; VDS [max] (V): 55; VGSth [typ] (V): 3; DatasheetVersion: Rev. 2; PackageVersion: 14-06-10, 06/2014; PackageReference: SOT428; PackageDescription: 3-Pin Plastic Single-ended Surface Mounted Package, Body 6.1 x 6.6 mm, Pitch 2.285 mm; Supplier 1: Digi-Key; Supplier Part Number 1: 568-9637-2-ND; Supplier 2: Digi-Key; Supplier Part Number 2: 568-9637-1-ND; Supplier 3: Digi-Key; Supplier Part Number 3: 568-9637-6-ND; Supplier 4: Mouser; Supplier Part Number 4: 771-BUK7225-55A118; Mounting Technology: Surface Mount; Code_JEITA: SC-63; Code_JEDEC: TO-252; ComponentLink1Description: Manufacturer URL; ComponentLink1URL: http://www.nxp.com/; ComponentLink2Description: Datasheet; ComponentLink2URL: http://www.nxp.com/documents/data_sheet/BUK7225-55A.pdf; ComponentLink3Description: Package Specification; ComponentLink3URL: http://www.nxp.com/documents/outline_drawing/sot428_po.pdf
footprint NXP-SOT428_N (DPAK, 3-Leads, Body 6.75x6.22mm, Pitch 2.29mm, IPC Medium Density)
footprint NXP-SOT428_L (DPAK, 3-Leads, Body 6.75x6.22mm, Pitch 2.29mm, IPC High Density)
footprint NXP-SOT428_M (DPAK, 3-Leads, Body 6.75x6.22mm, Pitch 2.29mm, IPC Low Density)
pins: 1 G "gate", 3 S "source", 4 D "mounting base; connected to drain"

## BUK7226-75A,118
designator Q?
N-Channel TrenchMOS Standard Level FET, 75 V, 45 A, 3-Pin SOT428, Tape and Reel; Manufacturer: NXP Semiconductors; PartNumber: BUK7226-75A,118; Automotive Qualified: Y; Channel Type: N; ID [max] (A): 45; IDM [max] (A): 215; Packing: Tape & Reel; Qr [typ] (nC): 144; VDS [max] (V): 75; VGSth [typ] (V): 3; DatasheetVersion: Rev. 02; PackageVersion: 14-06-10, 06/2014; PackageReference: SOT428; PackageDescription: 3-Pin Plastic Single-ended Surface Mounted Package, Body 6.1 x 6.6 mm, Pitch 2.285 mm; Supplier 1: Digi-Key; Supplier Part Number 1: 568-9638-2-ND; Supplier 2: Digi-Key; Supplier Part Number 2: 568-9638-1-ND; Supplier 3: Digi-Key; Supplier Part Number 3: 568-9638-6-ND; Supplier 4: Mouser; Supplier Part Number 4: 771-BUK7226-75A118; Mounting Technology: Surface Mount; Code_JEITA: SC-63; Code_JEDEC: TO-252; ComponentLink1Description: Manufacturer URL; ComponentLink1URL: http://www.nxp.com/; ComponentLink2Description: Datasheet; ComponentLink2URL: http://www.nxp.com/documents/data_sheet/BUK7226-75A.pdf; ComponentLink3Description: Package Specification; ComponentLink3URL: http://www.nxp.com/documents/outline_drawing/sot428_po.pdf
footprint NXP-SOT428_N (DPAK, 3-Leads, Body 6.75x6.22mm, Pitch 2.29mm, IPC Medium Density)
footprint NXP-SOT428_L (DPAK, 3-Leads, Body 6.75x6.22mm, Pitch 2.29mm, IPC High Density)
footprint NXP-SOT428_M (DPAK, 3-Leads, Body 6.75x6.22mm, Pitch 2.29mm, IPC Low Density)
pins: 1 G "gate", 3 S "source", 4 D "mounting base; connected to drain"

## BUK7227-100B,118
designator Q?
N-Channel TrenchMOS Standard Level FET, 100 V, 48 A, 3-Pin SOT428, Tape and Reel; Manufacturer: NXP Semiconductors; PartNumber: BUK7227-100B,118; Automotive Qualified: Y; Channel Type: N; ID [max] (A): 48; IDM [max] (A): 196; Packing: Tape & Reel; Qr [typ] (nC): 114; VDS [max] (V): 100; VGSth [typ] (V): 3; DatasheetVersion: Rev. 02; PackageVersion: 14-06-10, 06/2014; PackageReference: SOT428; PackageDescription: 3-Pin Plastic Single-ended Surface Mounted Package, Body 6.1 x 6.6 mm, Pitch 2.285 mm; Supplier 1: Digi-Key; Supplier Part Number 1: 568-5845-2-ND; Supplier 2: Digi-Key; Supplier Part Number 2: 568-5845-1-ND; Supplier 3: Digi-Key; Supplier Part Number 3: 568-5845-6-ND; Supplier 4: Newark; Supplier Part Number 4: 70R3412; Supplier 5: Mouser; Supplier Part Number 5: 771-BUK7227-100B118; Mounting Technology: Surface Mount; Code_JEITA: SC-63; Code_JEDEC: TO-252; ComponentLink1Description: Manufacturer URL; ComponentLink1URL: http://www.nxp.com/; ComponentLink2Description: Datasheet; ComponentLink2URL: http://www.nxp.com/documents/data_sheet/BUK7227-100B.pdf; ComponentLink3Description: Package Specification; ComponentLink3URL: http://www.nxp.com/documents/outline_drawing/sot428_po.pdf
footprint NXP-SOT428_N (DPAK, 3-Leads, Body 6.75x6.22mm, Pitch 2.29mm, IPC Medium Density)
footprint NXP-SOT428_L (DPAK, 3-Leads, Body 6.75x6.22mm, Pitch 2.29mm, IPC High Density)
footprint NXP-SOT428_M (DPAK, 3-Leads, Body 6.75x6.22mm, Pitch 2.29mm, IPC Low Density)
pins: 1 G "gate", 3 S "source", 4 D "mounting base; connected to drain"

## BUK7230-55A,118
designator Q?
N-Channel TrenchMOS Standard Level FET, 55 V, 38 A, 3-Pin SOT428, Tape and Reel; Manufacturer: NXP Semiconductors; PartNumber: BUK7230-55A,118; Automotive Qualified: Y; Channel Type: N; ID [max] (A): 38; IDM [max] (A): 150; Packing: Tape & Reel; Qr [typ] (nC): 100; VDS [max] (V): 55; VGSth [typ] (V): 3; DatasheetVersion: Rev. 02; PackageVersion: 14-06-10, 06/2014; PackageReference: SOT428; PackageDescription: 3-Pin Plastic Single-ended Surface Mounted Package, Body 6.1 x 6.6 mm, Pitch 2.285 mm; Supplier 1: Digi-Key; Supplier Part Number 1: 568-9639-2-ND; Supplier 2: Digi-Key; Supplier Part Number 2: 568-9639-1-ND; Supplier 3: Digi-Key; Supplier Part Number 3: 568-9639-6-ND; Supplier 4: Mouser; Supplier Part Number 4: 771-BUK7230-55A118; Mounting Technology: Surface Mount; Code_JEITA: SC-63; Code_JEDEC: TO-252; ComponentLink1Description: Manufacturer URL; ComponentLink1URL: http://www.nxp.com/; ComponentLink2Description: Datasheet; ComponentLink2URL: http://www.nxp.com/documents/data_sheet/BUK7230-55A.pdf; ComponentLink3Description: Package Specification; ComponentLink3URL: http://www.nxp.com/documents/outline_drawing/sot428_po.pdf
footprint NXP-SOT428_N (DPAK, 3-Leads, Body 6.75x6.22mm, Pitch 2.29mm, IPC Medium Density)
footprint NXP-SOT428_L (DPAK, 3-Leads, Body 6.75x6.22mm, Pitch 2.29mm, IPC High Density)
footprint NXP-SOT428_M (DPAK, 3-Leads, Body 6.75x6.22mm, Pitch 2.29mm, IPC Low Density)
pins: 1 G "gate", 3 S "source", 4 D "mounting base; connected to drain"

## BUK7237-55A,118
designator Q?
N-Channel TrenchMOS Standard Level FET, 55 V, 32.3 A, 3-Pin SOT428, Tape and Reel; Manufacturer: NXP Semiconductors; PartNumber: BUK7237-55A,118; Automotive Qualified: Y; Channel Type: N; ID [max] (A): 32.3; IDM [max] (A): 129; Packing: Tape & Reel; Qr [typ] (nC): 80; VDS [max] (V): 55; VGSth [typ] (V): 3; DatasheetVersion: Rev. 02; PackageVersion: 14-06-10, 06/2014; PackageReference: SOT428; PackageDescription: 3-Pin Plastic Single-ended Surface Mounted Package, Body 6.1 x 6.6 mm, Pitch 2.285 mm; Supplier 1: Digi-Key; Supplier Part Number 1: 568-9640-2-ND; Supplier 2: Digi-Key; Supplier Part Number 2: 568-9640-1-ND; Supplier 3: Digi-Key; Supplier Part Number 3: 568-9640-6-ND; Supplier 4: Mouser; Supplier Part Number 4: 771-BUK7237-55A118; Mounting Technology: Surface Mount; Code_JEITA: SC-63; Code_JEDEC: TO-252; ComponentLink1Description: Manufacturer URL; ComponentLink1URL: http://www.nxp.com/; ComponentLink2Description: Datasheet; ComponentLink2URL: http://www.nxp.com/documents/data_sheet/BUK7237-55A.pdf; ComponentLink3Description: Package Specification; ComponentLink3URL: http://www.nxp.com/documents/outline_drawing/sot428_po.pdf
footprint NXP-SOT428_N (DPAK, 3-Leads, Body 6.75x6.22mm, Pitch 2.29mm, IPC Medium Density)
footprint NXP-SOT428_L (DPAK, 3-Leads, Body 6.75x6.22mm, Pitch 2.29mm, IPC High Density)
footprint NXP-SOT428_M (DPAK, 3-Leads, Body 6.75x6.22mm, Pitch 2.29mm, IPC Low Density)
pins: 1 G "gate", 3 S "source", 4 D "mounting base; connected to drain"

## BUK7240-100A,118
designator Q?
N-Channel TrenchMOS Standard Level FET, 100 V, 34 A, 3-Pin SOT428, Tape and Reel; Manufacturer: NXP Semiconductors; PartNumber: BUK7240-100A,118; Automotive Qualified: Y; Channel Type: N; ID [max] (A): 34; IDM [max] (A): 136; Packing: Tape & Reel; Qr [typ] (nC): 240; VDS [max] (V): 100; VGSth [typ] (V): 3; DatasheetVersion: Rev. 2; PackageVersion: 14-06-10, 06/2014; PackageReference: SOT428; PackageDescription: 3-Pin Plastic Single-ended Surface Mounted Package, Body 6.1 x 6.6 mm, Pitch 2.285 mm; Supplier 1: Digi-Key; Supplier Part Number 1: 568-9641-2-ND; Supplier 2: Digi-Key; Supplier Part Number 2: 568-9641-1-ND; Supplier 3: Digi-Key; Supplier Part Number 3: 568-9641-6-ND; Supplier 4: Mouser; Supplier Part Number 4: 771-BUK7240-100A118; Mounting Technology: Surface Mount; Code_JEITA: SC-63; Code_JEDEC: TO-252; ComponentLink1Description: Manufacturer URL; ComponentLink1URL: http://www.nxp.com/; ComponentLink2Description: Datasheet; ComponentLink2URL: http://www.nxp.com/documents/data_sheet/BUK7240-100A.pdf; ComponentLink3Description: Package Specification; ComponentLink3URL: http://www.nxp.com/documents/outline_drawing/sot428_po.pdf
footprint NXP-SOT428_N (DPAK, 3-Leads, Body 6.75x6.22mm, Pitch 2.29mm, IPC Medium Density)
footprint NXP-SOT428_L (DPAK, 3-Leads, Body 6.75x6.22mm, Pitch 2.29mm, IPC High Density)
footprint NXP-SOT428_M (DPAK, 3-Leads, Body 6.75x6.22mm, Pitch 2.29mm, IPC Low Density)
pins: 1 G "gate", 3 S "source", 4 D "mounting base; connected to drain"

## BUK7275-100A,118
designator Q?
N-Channel TrenchMOS Standard Level FET, 100 V, 21.7 A, 3-Pin SOT428, Tape and Reel; Manufacturer: NXP Semiconductors; PartNumber: BUK7275-100A,118; Automotive Qualified: Y; Channel Type: N; ID [max] (A): 21.7; IDM [max] (A): 87; Packing: Tape & Reel; Qr [typ] (nC): 120; VDS [max] (V): 100; VGSth [typ] (V): 3; DatasheetVersion: Rev. 02; PackageVersion: 14-06-10, 06/2014; PackageReference: SOT428; PackageDescription: 3-Pin Plastic Single-ended Surface Mounted Package, Body 6.1 x 6.6 mm, Pitch 2.285 mm; Supplier 1: Digi-Key; Supplier Part Number 1: 568-9642-2-ND; Supplier 2: Digi-Key; Supplier Part Number 2: 568-9642-1-ND; Supplier 3: Digi-Key; Supplier Part Number 3: 568-9642-6-ND; Supplier 4: Newark; Supplier Part Number 4: 70R3418; Supplier 5: Mouser; Supplier Part Number 5: 771-BUK7275-100A118; Mounting Technology: Surface Mount; Code_JEITA: SC-63; Code_JEDEC: TO-252; ComponentLink1Description: Manufacturer URL; ComponentLink1URL: http://www.nxp.com/; ComponentLink2Description: Datasheet; ComponentLink2URL: http://www.nxp.com/documents/data_sheet/BUK7275-100A.pdf; ComponentLink3Description: Package Specification; ComponentLink3URL: http://www.nxp.com/documents/outline_drawing/sot428_po.pdf
footprint NXP-SOT428_N (DPAK, 3-Leads, Body 6.75x6.22mm, Pitch 2.29mm, IPC Medium Density)
footprint NXP-SOT428_L (DPAK, 3-Leads, Body 6.75x6.22mm, Pitch 2.29mm, IPC High Density)
footprint NXP-SOT428_M (DPAK, 3-Leads, Body 6.75x6.22mm, Pitch 2.29mm, IPC Low Density)
pins: 1 G "gate", 3 S "source", 4 D "mounting base; connected to drain"

## BUK7277-55A,118
designator Q?
N-Channel TrenchMOS Standard Level FET, 55 V, 18 A, 3-Pin SOT428, Tape and Reel; Manufacturer: NXP Semiconductors; PartNumber: BUK7277-55A,118; Automotive Qualified: Y; Channel Type: N; ID [max] (A): 18; IDM [max] (A): 73; Packing: Tape & Reel; Qr [typ] (nC): 120; VDS [max] (V): 55; VGSth [typ] (V): 3; PackageVersion: 14-06-10, 06/2014; PackageReference: SOT428; PackageDescription: 3-Pin Plastic Single-ended Surface Mounted Package, Body 6.1 x 6.6 mm, Pitch 2.285 mm; Supplier 1: Digi-Key; Supplier Part Number 1: 568-9643-2-ND; Supplier 2: Digi-Key; Supplier Part Number 2: 568-9643-1-ND; Supplier 3: Digi-Key; Supplier Part Number 3: 568-9643-6-ND; Supplier 4: Mouser; Supplier Part Number 4: 771-BUK7277-55A118; Mounting Technology: Surface Mount; Code_JEITA: SC-63; Code_JEDEC: TO-252; ComponentLink1Description: Manufacturer URL; ComponentLink1URL: http://www.nxp.com/; ComponentLink2Description: Datasheet; ComponentLink2URL: http://www.nxp.com/documents/data_sheet/BUK7277-55A.pdf; ComponentLink3Description: Package Specification; ComponentLink3URL: http://www.nxp.com/documents/outline_drawing/sot428_po.pdf
footprint NXP-SOT428_N (DPAK, 3-Leads, Body 6.75x6.22mm, Pitch 2.29mm, IPC Medium Density)
footprint NXP-SOT428_L (DPAK, 3-Leads, Body 6.75x6.22mm, Pitch 2.29mm, IPC High Density)
footprint NXP-SOT428_M (DPAK, 3-Leads, Body 6.75x6.22mm, Pitch 2.29mm, IPC Low Density)
pins: 1 G "gate", 3 S "source", 4 D "mounting base; connected to drain"

## BUK7506-55A,127
designator Q?
N-Channel TrenchMOS Standard Level FET, 55 V, 3-Pin SOT78A, Rail; Manufacturer: NXP Semiconductors; PartNumber: BUK7506-55A,127; Automotive Qualified: Y; Channel Type: N; IDM [max] (A): 616; Qr [typ] (nC): 200; VDS [max] (V): 55; VGSth [typ] (V): 3; DatasheetVersion: Rev. 03; PackageVersion: 05-03-14, 03/2005; PackageReference: SOT78A; PackageDescription: 3-Pin Flange Mount, Vertical Straight Lead, Body 10 x 4.3 mm, Pitch 2.54 mm; Supplier 1: Digi-Key; Supplier Part Number 1: 568-9808-5-ND; Supplier 2: Mouser; Supplier Part Number 2: 771-BUK7506-55A127; Packing: Rail; Mounting Technology: Through Hole; Code_JEITA: SC-46; Code_JEDEC: 3-lead TO-220AB; ComponentLink1Description: Manufacturer URL; ComponentLink1URL: http://www.nxp.com/; ComponentLink2Description: Datasheet; ComponentLink2URL: http://www.nxp.com/documents/data_sheet/BUK7506-55A.pdf; ComponentLink3Description: Package Specification; ComponentLink3URL: http://www.nxp.com/documents/outline_drawing/sot078a_po.pdf
footprint NXP-SOT78A (FM, 3-Leads, Body 10.3x4.5mm, Pitch 2.54mm)
pins: 1 G "gate", 2 D "drain", 3 S "source"

## BUK7506-75B,127
designator Q?
N-Channel TrenchMOS Standard Level FET, 75 V, 3-Pin SOT78A, Rail; Manufacturer: NXP Semiconductors; PartNumber: BUK7506-75B,127; Automotive Qualified: Y; Channel Type: N; IDM [max] (A): 638; Qr [typ] (nC): 253; VDS [max] (V): 75; VGSth [typ] (V): 3; DatasheetVersion: Rev. 03; PackageVersion: 05-03-14, 03/2005; PackageReference: SOT78A; PackageDescription: 3-Pin Flange Mount, Vertical Straight Lead, Body 10 x 4.3 mm, Pitch 2.54 mm; Supplier 1: Digi-Key; Supplier Part Number 1: 568-6619-5-ND; Supplier 2: Mouser; Supplier Part Number 2: 771-BUK7506-75B127; Packing: Rail; Mounting Technology: Through Hole; Code_JEITA: SC-46; Code_JEDEC: 3-lead TO-220AB; ComponentLink1Description: Manufacturer URL; ComponentLink1URL: http://www.nxp.com/; ComponentLink2Description: Datasheet; ComponentLink2URL: http://www.nxp.com/documents/data_sheet/BUK7506-75B.pdf; ComponentLink3Description: Package Specification; ComponentLink3URL: http://www.nxp.com/documents/outline_drawing/sot078a_po.pdf
footprint NXP-SOT78A (FM, 3-Leads, Body 10.3x4.5mm, Pitch 2.54mm)
pins: 1 G "gate", 2 D "drain", 3 S "source"